# Altium footprint library Passive.PcbLib: 17 footprints (part 2 of 2)
Each footprint in its own frame and in the unit in brackets; x right, y up, seen from the top. Pads: shape width x height; smd on the part's side, far side on the other; paste and mask are expansions set on the pad; w line width, h text height; cw(c..) or ccw(c..) is an arc to the next point about the centre after c.
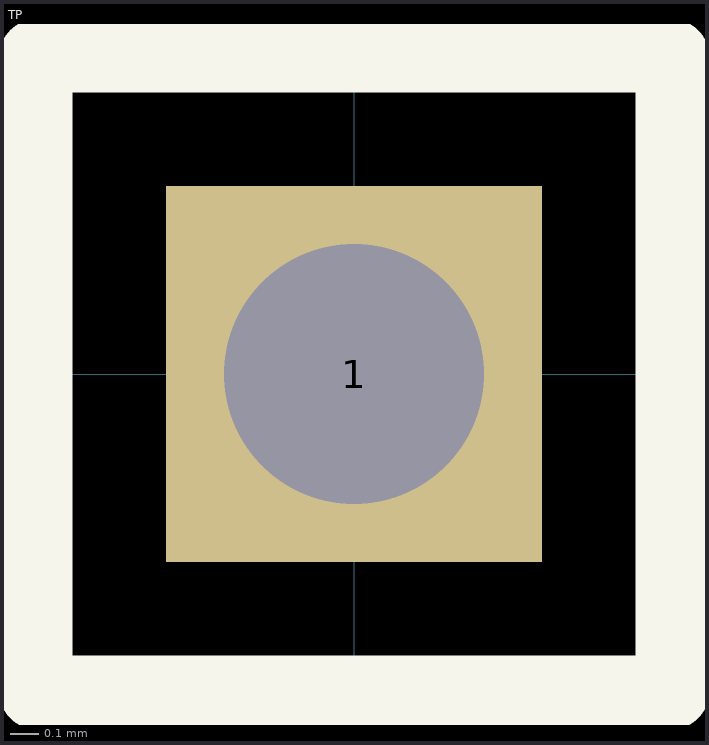
[diagram p1: the footprint, top view; thin cyan lines are the x and y axes]

## TP [mm] "TestPoint"
pads (1):
  rect 1.3x1.3 hole 0.9: 1(0,0)
Top Overlay:
  lines w0.254: -1.1,-1.1 -1.1,1.1 1.1,1.1 1.1,-1.1 -1.1,-1.1